# Altium footprint library CHXXX.pcblib: 136 footprints (part 5 of 9)
Each footprint in its own frame and in the unit in brackets; x right, y up, seen from the top. Pads: shape width x height; smd on the part's side, far side on the other; paste and mask are expansions set on the pad; w line width, h text height; cw(c..) or ccw(c..) is an arc to the next point about the centre after c.
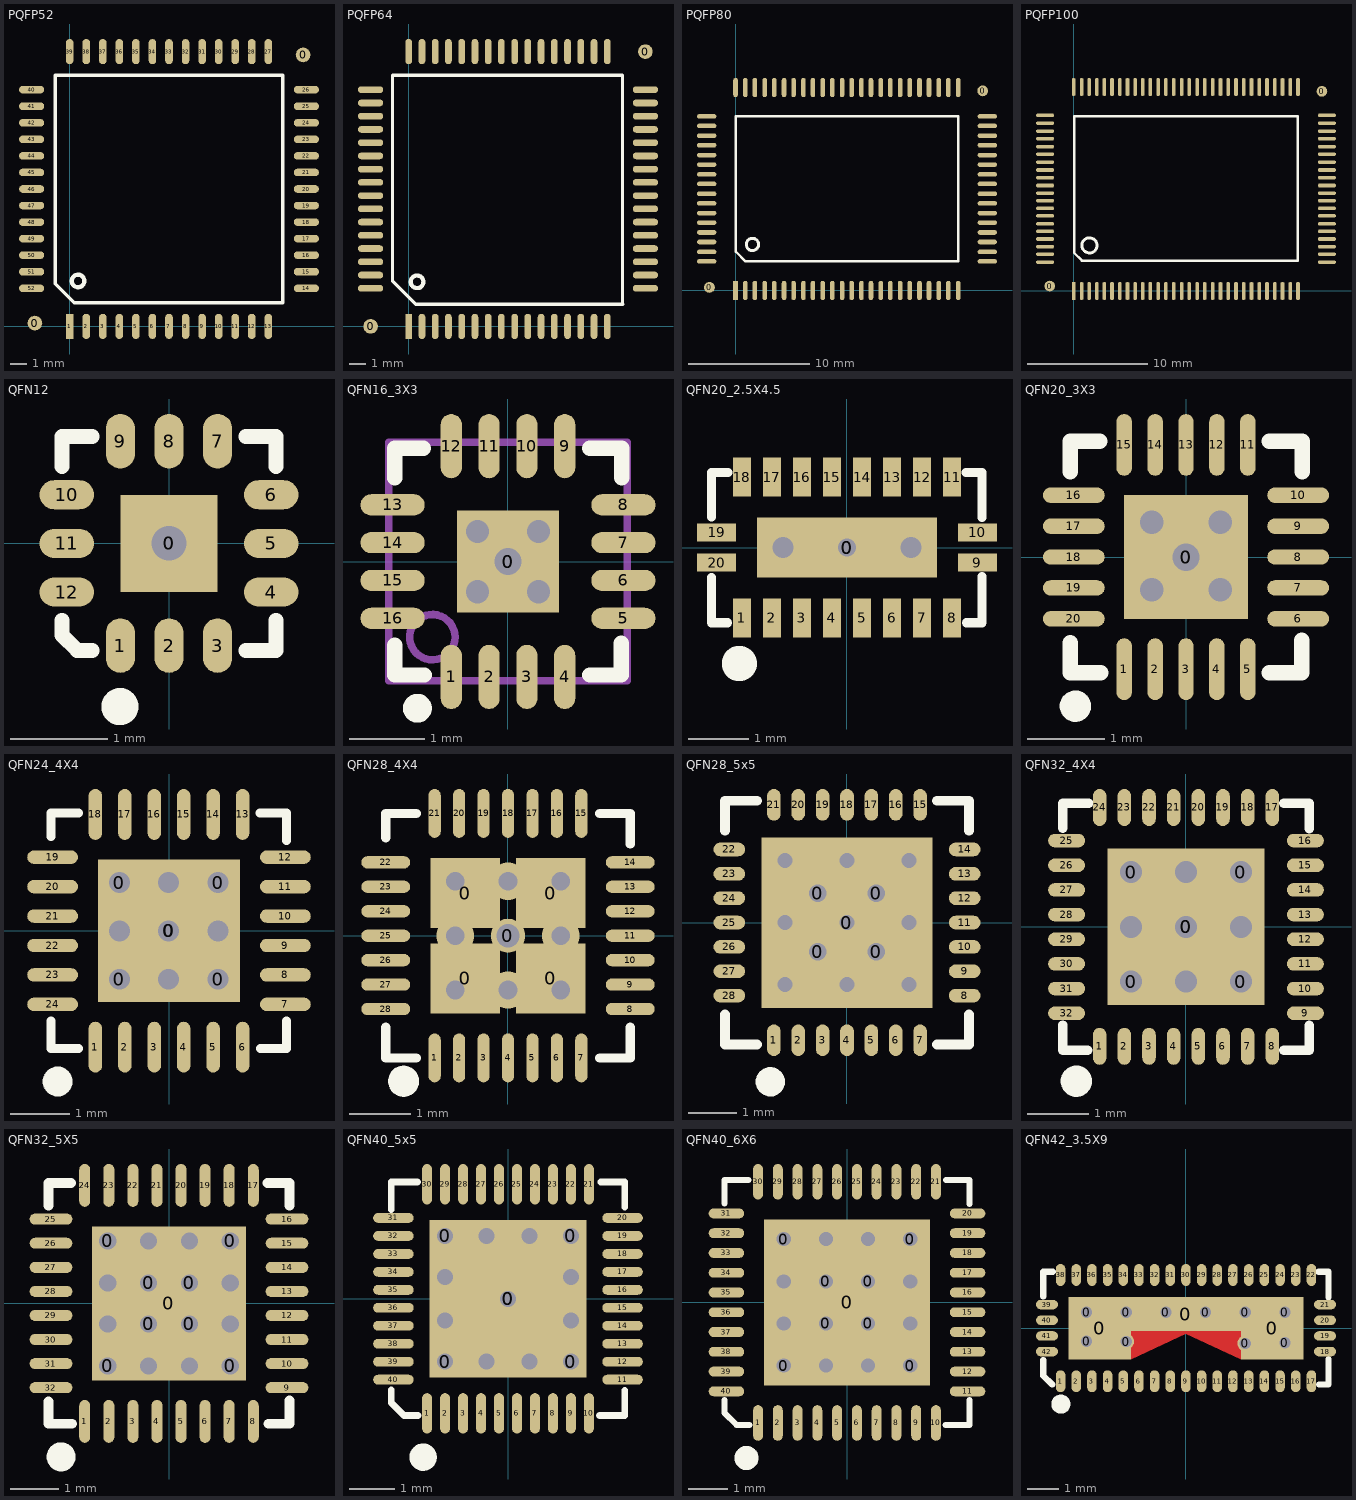
[diagram p4: the footprints below, top view; thin cyan lines are the x and y axes]

## PQFP52 [mil]
pads (54):
  round 35 smd: 0(-82.68,7.87) 0(555.12,645.67)
  rect 18x60 smd: 1(0,0)
  oval 18x60 smd: 2(39.37,0) 3(78.74,0) 4(118.11,0) 5(157.48,0) 6(196.85,0) 7(236.22,0) 8(275.59,0) 9(314.96,0) 10(354.33,0) 11(393.7,0) 12(433.07,0) 13(472.44,0) 27(472.44,653.54) 28(433.07,653.54) 29(393.7,653.54) 30(354.33,653.54) 31(314.96,653.54) 32(275.59,653.54) 33(236.22,653.54) 34(196.85,653.54) 35(157.48,653.54) 36(118.11,653.54) 37(78.74,653.54) 38(39.37,653.54) 39(0,653.54)
  oval 60x18 smd: 14(562.99,90.55) 15(562.99,129.92) 16(562.99,169.29) 17(562.99,208.66) 18(562.99,248.03) 19(562.99,287.4) 20(562.99,326.77) 21(562.99,366.14) 22(562.99,405.51) 23(562.99,444.88) 24(562.99,484.25) 25(562.99,523.62) 26(562.99,562.99) 40(-90.55,562.99) 41(-90.55,523.62) 42(-90.55,484.25) 43(-90.55,444.88) 44(-90.55,405.51) 45(-90.55,366.14) 46(-90.55,326.77) 47(-90.55,287.4) 48(-90.55,248.03) 49(-90.55,208.66) 50(-90.55,169.29) 51(-90.55,129.92) 52(-90.55,90.55)
TopOverlay:
  circle w10: c20,108 r15
  lines w7.87: -34.06,101.18 10.63,56.5 506.5,56.5 506.5,597.05 -34.06,597.05 -34.06,101.18

## PQFP64 [mil]
pads (66):
  round 35 smd: 0(-90.55,0) 0(562.99,653.54)
  rect 16x60 smd: 1(0,0)
  oval 16x60 smd: 2(31.5,0) 3(62.99,0) 4(94.49,0) 5(125.98,0) 6(157.48,0) 7(188.98,0) 8(220.47,0) 9(251.97,0) 10(283.46,0) 11(314.96,0) 12(346.46,0) 13(377.95,0) 14(409.45,0) 15(440.94,0) 16(472.44,0) 33(472.44,653.54) 34(440.94,653.54) 35(409.45,653.54) 36(377.95,653.54) 37(346.46,653.54) 38(314.96,653.54) 39(283.46,653.54) 40(251.97,653.54) 41(220.47,653.54) 42(188.98,653.54) 43(157.48,653.54) 44(125.98,653.54) 45(94.49,653.54) 46(62.99,653.54) 47(31.5,653.54) 48(0,653.54)
  oval 60x16 smd: 17(562.99,90.55) 18(562.99,122.05) 19(562.99,153.54) 20(562.99,185.04) 21(562.99,216.54) 22(562.99,248.03) 23(562.99,279.53) 24(562.99,311.02) 25(562.99,342.52) 26(562.99,374.02) 27(562.99,405.51) 28(562.99,437.01) 29(562.99,468.5) 30(562.99,500) 31(562.99,531.5) 32(562.99,562.99) 49(-90.55,562.99) 50(-90.55,531.5) 51(-90.55,500) 52(-90.55,468.5) 53(-90.55,437.01) 54(-90.55,405.51) 55(-90.55,374.02) 56(-90.55,342.52) 57(-90.55,311.02) 58(-90.55,279.53) 59(-90.55,248.03) 60(-90.55,216.54) 61(-90.55,185.04) 62(-90.55,153.54) 63(-90.55,122.05) 64(-90.55,90.55)
TopOverlay:
  circle w10: c20,106 r15
  lines w7.87: -38.34,107.06 -38.34,597.65 508.78,597.65 508.78,52.53
  lines w8: -38.34,107.06 -38.05,107.06 16.47,52.53 508.78,52.53

## PQFP80 [mil]
pads (82):
  round 35 smd: 0(-85,10) 0(805,650)
  rect 15x63 smd: 1(0,0)
  oval 15x63 smd: 2(32,0) 3(63,0) 4(95,0) 5(126,0) 6(158,0) 7(189,0) 8(221,0) 9(252,0) 10(284,0) 11(315,0) 12(347,0) 13(378,0) 14(410,0) 15(441,0) 16(473,0) 17(504,0) 18(536,0) 19(567,0) 20(599,0) 21(630,0) 22(662,0) 23(693,0) 24(725,0) 41(725,661) 42(693,661) 43(662,661) 44(630,661) 45(599,661) 46(567,661) 47(536,661) 48(504,661) 49(473,661) 50(441,661) 51(410,661) 52(378,661) 53(347,661) 54(315,661) 55(284,661) 56(252,661) 57(221,661) 58(189,661) 59(158,661) 60(126,661) 61(95,661) 62(63,661) 63(32,661) 64(0,661)
  oval 63x15 smd: 25(820,95) 26(820,126) 27(820,158) 28(820,189) 29(820,221) 30(820,252) 31(820,284) 32(820,315) 33(820,347) 34(820,378) 35(820,410) 36(820,441) 37(820,473) 38(820,504) 39(820,536) 40(820,567) 65(-94,567) 66(-94,536) 67(-94,504) 68(-94,473) 69(-94,441) 70(-94,410) 71(-94,378) 72(-94,347) 73(-94,315) 74(-94,284) 75(-94,252) 76(-94,221) 77(-94,189) 78(-94,158) 79(-94,126) 80(-94,95)
TopOverlay:
  circle w10: c55,150 r20
  lines w8: 0,126 0,567 725,567 725,95 32,95 1,126

## PQFP100 [mil]
pads (102):
  round 35 smd: 0(-78.74,16.26) 0(816.74,656.74)
  rect 12x60 smd: 1(0,0)
  oct 12x60 smd: 2(26,0) 3(51,0) 4(76,0) 5(101,0) 6(126,0) 7(152,0) 8(177,0) 9(202,0) 10(227,0) 11(252,0) 12(278,0) 13(303,0) 14(329,0) 15(355,0) 16(380,0) 17(406,0) 18(431,0) 19(457,0) 20(483,0) 21(508,0) 22(534,0) 23(559,0) 24(585,0) 25(611,0) 26(636,0) 27(662,0) 28(687,0) 29(713,0) 30(738,0) 51(738,671) 52(713,671) 53(687,671) 54(662,671) 55(636,671) 56(611,671) 57(585,671) 58(559,671) 59(534,671) 60(508,671) 61(483,671) 62(457,671) 63(431,671) 64(406,671) 65(380,671) 66(355,671) 67(329,671) 68(303,671) 69(278,671) 70(252,671) 71(227,671) 72(202,671) 73(177,671) 74(152,671) 75(126,671) 76(101,671) 77(76,671) 78(51,671) 79(26,671) 80(0,671)
  oct 60x12 smd: 31(833,95) 32(833,121) 33(833,146) 34(833,171) 35(833,196) 36(833,221) 37(833,247) 38(833,272) 39(833,297) 40(833,322) 41(833,347) 42(833,373) 43(833,398) 44(833,424) 45(833,450) 46(833,475) 47(833,501) 48(833,526) 49(833,552) 50(833,578) 81(-94,578) 82(-94,552) 83(-94,526) 84(-94,501) 85(-94,475) 86(-94,450) 87(-94,424) 88(-94,398) 89(-94,373) 90(-94,347) 91(-94,322) 92(-94,297) 93(-94,272) 94(-94,247) 95(-94,221) 96(-94,196) 97(-94,171) 98(-94,146) 99(-94,121) 100(-94,95)
TopOverlay:
  circle w10: c52,150 r25
  lines w8: 2,125 2,575 737,575 737,100 27,100 2,125

## QFN12 [mm]
pads (14):
  rect 1x1 smd mask+0.102: 0(0,0)
  round 0.559 hole 0.356 mask+0.102: 0(0,0)
  oval 0.3x0.56 smd mask+0.102: 1(-0.5,-1.05) 2(0,-1.05) 3(0.5,-1.05) 7(0.5,1.05) 8(0,1.05) 9(-0.5,1.05)
  oval 0.56x0.3 smd mask+0.102: 4(1.05,-0.5) 5(1.05,0) 6(1.05,0.5) 10(-1.05,0.5) 11(-1.05,0) 12(-1.05,-0.5)
TopOverlay:
  circle w0.229: c-0.504,-1.677 r0.076
  lines w0.152: -1.1,-0.789 -1.1,-0.945 -0.945,-1.1 -0.789,-1.1 ; -1.1,0.789 -1.1,1.1 -0.789,1.1 ; 0.789,-1.1 1.1,-1.1 1.1,-0.789 ; 0.789,1.1 1.1,1.1 1.1,0.789

## QFN16_3X3 [mm]
pads (18):
  rect 1.35x1.35 smd mask+0.051: 0(0,0)
  round 0.508 hole 0.356: 0(0,0)
  oval 0.28x0.85 smd mask+0.051: 1(-0.75,-1.526) 2(-0.25,-1.526) 3(0.25,-1.526) 4(0.75,-1.526) 9(0.75,1.526) 10(0.25,1.526) 11(-0.25,1.526) 12(-0.75,1.526)
  oval 0.85x0.28 smd mask+0.051: 5(1.526,-0.75) 6(1.526,-0.25) 7(1.526,0.25) 8(1.526,0.75) 13(-1.526,0.75) 14(-1.526,0.25) 15(-1.526,-0.25) 16(-1.526,-0.75)
via -0.405,-0.399 diameter 0.508 hole 0.305
via 0.405,-0.399 diameter 0.508 hole 0.305
via 0.405,0.399 diameter 0.508 hole 0.305
via -0.405,0.399 diameter 0.508 hole 0.305
TopOverlay:
  circle w0.229: c-1.198,-1.94 r0.076
  lines w0.203: -1.497,-1.108 -1.497,-1.5 -1.105,-1.5 ; -1.497,1.105 -1.497,1.5 -1.118,1.5 ; 1.079,-1.5 1.5,-1.5 1.5,-1.08 ; 1.082,1.5 1.503,1.5 1.503,1.108
Mechanical13:
  circle w0.1: c-1,-1 r0.3
  lines w0.1: -1.575,-1.575 -1.575,1.575 1.575,1.575 1.575,-1.575 -1.575,-1.575
3D body: height 0.25, standoff 0, extent -1.521,-1.519 1.521,1.523

## QFN20_2.5X4.5 [mm]
pads (22):
  rect 3x1 smd: 0(0,0)
  round 0.559 hole 0.305 mask+0.102: 0(0,0)
  rect 0.3x0.65 smd: 1(-1.75,-1.17) 2(-1.25,-1.17) 3(-0.75,-1.17) 4(-0.25,-1.17) 5(0.25,-1.17) 6(0.75,-1.17) 7(1.25,-1.17) 8(1.75,-1.17) 11(1.75,1.17) 12(1.25,1.17) 13(0.75,1.17) 14(0.25,1.17) 15(-0.25,1.17) 16(-0.75,1.17) 17(-1.25,1.17) 18(-1.75,1.17)
  rect 0.65x0.3 smd: 9(2.17,-0.25) 10(2.17,0.25) 19(-2.17,0.25) 20(-2.17,-0.25)
via 1.064,0 diameter 0.508 hole 0.356
via -1.064,0 diameter 0.508 hole 0.356
TopOverlay:
  circle w0.35: c-1.79,-1.93 r0.118
  lines w0.152: -2.257,-0.5 -2.257,-1.251 -1.99,-1.251 ; -2.257,0.51 -2.257,1.249 -1.98,1.249 ; 1.98,1.249 2.243,1.249 2.243,0.5 ; 1.99,-1.251 2.243,-1.251 2.243,-0.48

## QFN20_3X3 [mm]
pads (22):
  rect 1.6x1.6 smd: 0(0,0)
  round 0.508 hole 0.356: 0(0,0)
  oval 0.2x0.8 smd: 1(-0.8,-1.451) 2(-0.4,-1.451) 3(0,-1.451) 4(0.4,-1.451) 5(0.8,-1.451) 11(0.8,1.451) 12(0.4,1.451) 13(0,1.451) 14(-0.4,1.451) 15(-0.8,1.451)
  oval 0.8x0.2 smd: 6(1.451,-0.8) 7(1.451,-0.4) 8(1.451,0) 9(1.451,0.4) 10(1.451,0.8) 16(-1.451,0.8) 17(-1.451,0.4) 18(-1.451,0) 19(-1.451,-0.4) 20(-1.451,-0.8)
via 0.442,-0.422 diameter 0.508 hole 0.305
via -0.442,0.449 diameter 0.508 hole 0.305
via -0.442,-0.422 diameter 0.508 hole 0.305
via 0.442,0.449 diameter 0.508 hole 0.305
TopOverlay:
  circle w0.203: c-1.431,-1.93 r0.102
  lines w0.203: -1.497,-1.108 -1.497,-1.5 -1.105,-1.5 ; -1.497,1.105 -1.497,1.5 -1.118,1.5 ; 1.079,-1.5 1.5,-1.5 1.5,-1.08 ; 1.082,1.5 1.503,1.5 1.503,1.108

## QFN24_4X4 [mil]
pads (30):
  round 20 hole 14: 0(-33.21,-32.4) 0(-33.21,32.2) 0(-0.21,-0.1) 0(32.79,-32.4) 0(32.79,32.2)
  rect 95x95 smd: 0(0,0)
  oval 9x34 smd: 1(-49.21,-77.8) 2(-29.53,-77.8) 3(-9.84,-77.8) 4(9.84,-77.8) 5(29.53,-77.8) 6(49.21,-77.8) 13(49.21,77.8) 14(29.53,77.8) 15(9.84,77.8) 16(-9.84,77.8) 17(-29.53,77.8) 18(-49.21,77.8)
  oval 34x9 smd: 7(77.8,-49.21) 8(77.8,-29.53) 9(77.8,-9.84) 10(77.8,9.84) 11(77.8,29.53) 12(77.8,49.21) 19(-77.8,49.21) 20(-77.8,29.53) 21(-77.8,9.84) 22(-77.8,-9.84) 23(-77.8,-29.53) 24(-77.8,-49.21)
via -0.21,32.2 diameter 20 hole 14
via -33.21,-0.1 diameter 20 hole 14
via -0.21,-32.4 diameter 20 hole 14
via 32.79,-0.1 diameter 20 hole 14
TopOverlay:
  circle w10: c-74.48,-100.79 r5
  lines w6: -78.98,-60.44 -78.98,-78.76 -60.53,-78.76 ; -78.98,62.97 -78.98,78.72 -60.48,78.72 ; 60.67,78.72 78.5,78.72 78.5,60.39 ; 61.05,-78.76 78.5,-78.76 78.5,-60.43

## QFN28_4X4 [mm]
pads (33):
  rect 1.143x1.143 smd mask+0: 0(-0.699,-0.699) 0(-0.699,0.698) 0(0.699,-0.699) 0(0.699,0.698)
  round 0.559 hole 0.381 mask+0.102: 0(0,0)
  oval 0.2x0.8 smd: 1(-1.2,-2) 2(-0.8,-2) 3(-0.4,-2) 4(0,-2) 5(0.4,-2) 6(0.8,-2) 7(1.2,-2) 15(1.2,2) 16(0.8,2) 17(0.4,2) 18(0,2) 19(-0.4,2) 20(-0.8,2) 21(-1.2,2)
  oval 0.8x0.2 smd: 8(2,-1.2) 9(2,-0.8) 10(2,-0.4) 11(2,0) 12(2,0.4) 13(2,0.8) 14(2,1.2) 22(-2,1.2) 23(-2,0.8) 24(-2,0.4) 25(-2,0) 26(-2,-0.4) 27(-2,-0.8) 28(-2,-1.2)
via 0,0.889 diameter 0.61 hole 0.305
via 0,-0.889 diameter 0.61 hole 0.305
via 0.864,0 diameter 0.61 hole 0.305
via -0.864,0 diameter 0.61 hole 0.305
via -0.864,0.889 diameter 0.61 hole 0.305
via 0.864,0.889 diameter 0.61 hole 0.305
via 0.864,-0.889 diameter 0.61 hole 0.305
via -0.864,-0.889 diameter 0.61 hole 0.305
TopOverlay:
  circle w0.254: c-1.708,-2.381 r0.127
  lines w0.152: -2,-1.5 -2,-2 -1.5,-2 ; -2,1.6 -2,2 -1.5,2 ; 1.5,-2 2,-2 2,-1.5 ; 1.5,2 2,2 2,1.5

## QFN28_5x5 [mm]
pads (33):
  round 0.508 hole 0.356: 0(-0.6,-0.6) 0(-0.6,0.6) 0(0.6,-0.6) 0(0.6,0.6)
  rect 3.5x3.5 smd: 0(0,0)
  oval 0.28x0.65 smd: 1(-1.5,-2.416) 2(-1,-2.416) 3(-0.5,-2.416) 4(0,-2.416) 5(0.5,-2.416) 6(1,-2.416) 7(1.5,-2.416) 15(1.5,2.416) 16(1,2.416) 17(0.5,2.416) 18(0,2.416) 19(-0.5,2.416) 20(-1,2.416) 21(-1.5,2.416)
  oval 0.65x0.28 smd: 8(2.416,-1.5) 9(2.416,-1) 10(2.416,-0.5) 11(2.416,0) 12(2.416,0.5) 13(2.416,1) 14(2.416,1.5) 22(-2.416,1.5) 23(-2.416,1) 24(-2.416,0.5) 25(-2.416,0) 26(-2.416,-0.5) 27(-2.416,-1) 28(-2.416,-1.5)
via 0,1.27 diameter 0.61 hole 0.305
via 1.27,1.27 diameter 0.61 hole 0.305
via 1.27,0 diameter 0.61 hole 0.305
via 1.27,-1.27 diameter 0.61 hole 0.305
via 0,-1.27 diameter 0.61 hole 0.305
via -1.27,-1.27 diameter 0.61 hole 0.305
via -1.27,0 diameter 0.61 hole 0.305
via -1.27,1.27 diameter 0.61 hole 0.305
via 0,0 diameter 0.61 hole 0.305
TopOverlay:
  circle w0.305: c-1.573,-3.268 r0.148
  lines w0.203: -2.5,-1.885 -2.5,-2.5 -1.85,-2.5 ; -2.5,1.885 -2.5,2.5 -1.85,2.5 ; 1.85,-2.5 2.5,-2.5 2.5,-1.885 ; 1.85,2.5 2.5,2.5 2.5,1.885

## QFN32_4X4 [mm]
pads (38):
  round 0.508 hole 0.356: 0(-0.889,-0.887) 0(-0.889,0.887) 0(0,0) 0(0.889,-0.887) 0(0.889,0.887)
  rect 2.54x2.54 smd: 0(0,0)
  oval 0.22x0.6 smd: 1(-1.4,-1.936) 2(-1,-1.936) 3(-0.6,-1.936) 4(-0.2,-1.936) 5(0.2,-1.936) 6(0.6,-1.936) 7(1,-1.936) 8(1.4,-1.936) 17(1.4,1.936) 18(1,1.936) 19(0.6,1.936) 20(0.2,1.936) 21(-0.2,1.936) 22(-0.6,1.936) 23(-1,1.936) 24(-1.4,1.936)
  oval 0.6x0.22 smd: 9(1.936,-1.4) 10(1.936,-1) 11(1.936,-0.6) 12(1.936,-0.2) 13(1.936,0.2) 14(1.936,0.6) 15(1.936,1) 16(1.936,1.4) 25(-1.936,1.4) 26(-1.936,1) 27(-1.936,0.6) 28(-1.936,0.2) 29(-1.936,-0.2) 30(-1.936,-0.6) 31(-1.936,-1) 32(-1.936,-1.4)
via 0.889,0 diameter 0.508 hole 0.356
via 0,-0.887 diameter 0.508 hole 0.356
via -0.889,0 diameter 0.508 hole 0.356
via 0,0.887 diameter 0.508 hole 0.356
TopOverlay:
  circle w0.254: c-1.78,-2.502 r0.127
  lines w0.152: -2.001,-1.591 -2.001,-1.998 -1.595,-1.998 ; -2.001,1.602 -2.001,2.002 -1.574,2.002 ; 1.583,2.002 1.999,2.002 1.999,1.59 ; 1.585,-1.998 1.999,-1.998 1.999,-1.593

## QFN32_5X5 [mil]
pads (41):
  round 20 hole 14: 0(-50.12,-51.11) 0(-50.12,51.11) 0(-16.71,-16.7) 0(-16.71,16.7) 0(16.71,-16.7) 0(16.71,16.7) 0(50.12,-51.11) 0(50.12,51.11)
  rect 125.98x125.98 smd: 0(0,0)
  oval 9x35 smd: 1(-68.9,-96.49) 2(-49.21,-96.49) 3(-29.53,-96.49) 4(-9.84,-96.49) 5(9.84,-96.49) 6(29.53,-96.49) 7(49.21,-96.49) 8(68.9,-96.49) 17(68.9,96.49) 18(49.21,96.49) 19(29.53,96.49) 20(9.84,96.49) 21(-9.84,96.49) 22(-29.53,96.49) 23(-49.21,96.49) 24(-68.9,96.49)
  oval 35x9 smd: 9(96.49,-68.9) 10(96.49,-49.21) 11(96.49,-29.53) 12(96.49,-9.84) 13(96.49,9.84) 14(96.49,29.53) 15(96.49,49.21) 16(96.49,68.9) 25(-96.49,68.9) 26(-96.49,49.21) 27(-96.49,29.53) 28(-96.49,9.84) 29(-96.49,-9.84) 30(-96.49,-29.53) 31(-96.49,-49.21) 32(-96.49,-68.9)
via -16.71,51.11 diameter 20 hole 14
via 16.71,51.11 diameter 20 hole 14
via 50.12,16.7 diameter 20 hole 14
via 50.12,-16.7 diameter 20 hole 14
via 16.71,-51.11 diameter 20 hole 14
via -16.71,-51.11 diameter 20 hole 14
via -50.12,-16.7 diameter 20 hole 14
via -50.12,16.7 diameter 20 hole 14
TopOverlay:
  circle w12: c-88.22,-125.47 r5.84
  lines w8: -98.43,-80.19 -98.43,-98.43 -79.38,-98.43 ; -98.43,79.88 -98.43,98.43 -80.12,98.43 ; 80.43,98.43 98.42,98.43 98.42,79.79 ; 81.23,-98.43 98.42,-98.43 98.42,-79.42

## QFN40_5x5 [mm]
pads (46):
  round 0.559 hole 0.356 mask+0.102: 0(-1.4,-1.4) 0(-1.4,1.4) 0(0,0) 0(1.4,-1.4) 0(1.4,1.4)
  rect 3.5x3.5 smd mask+0.102: 0(0,0)
  oval 0.22x0.9 smd mask+0.102: 1(-1.8,-2.55) 2(-1.4,-2.55) 3(-1,-2.55) 4(-0.6,-2.55) 5(-0.2,-2.55) 6(0.2,-2.55) 7(0.6,-2.55) 8(1,-2.55) 9(1.4,-2.55) 10(1.8,-2.55) 21(1.8,2.55) 22(1.4,2.55) 23(1,2.55) 24(0.6,2.55) 25(0.2,2.55) 26(-0.2,2.55) 27(-0.6,2.55) 28(-1,2.55) 29(-1.4,2.55) 30(-1.8,2.55)
  oval 0.9x0.22 smd mask+0.102: 11(2.55,-1.8) 12(2.55,-1.4) 13(2.55,-1) 14(2.55,-0.6) 15(2.55,-0.2) 16(2.55,0.2) 17(2.55,0.6) 18(2.55,1) 19(2.55,1.4) 20(2.55,1.8) 31(-2.55,1.8) 32(-2.55,1.4) 33(-2.55,1) 34(-2.55,0.6) 35(-2.55,0.2) 36(-2.55,-0.2) 37(-2.55,-0.6) 38(-2.55,-1) 39(-2.55,-1.4) 40(-2.55,-1.8)
via -0.483,1.4 diameter 0.61 hole 0.356
via 0.483,1.4 diameter 0.61 hole 0.356
via 1.4,0.483 diameter 0.61 hole 0.356
via 1.4,-0.483 diameter 0.61 hole 0.356
via 0.483,-1.4 diameter 0.61 hole 0.356
via -0.483,-1.4 diameter 0.61 hole 0.356
via -1.4,0.483 diameter 0.61 hole 0.356
via -1.4,-0.483 diameter 0.61 hole 0.356
TopOverlay:
  circle w0.305: c-1.89,-3.524 r0.152
  lines w0.152: -2.6,-2.025 -2.6,-2.311 -2.316,-2.6 -2.004,-2.6 ; -2.6,1.988 -2.6,2.6 -2.011,2.6 ; 2.038,-2.6 2.6,-2.6 2.6,-2.043 ; 2.065,2.6 2.6,2.6 2.6,2.039

## QFN40_6X6 [mm]
pads (49):
  round 0.508 hole 0.356 mask+0.102: 0(-1.6,-1.6) 0(-1.6,1.6) 0(-0.533,-0.533) 0(-0.533,0.533) 0(0.533,-0.533) 0(0.533,0.533) 0(1.6,-1.6) 0(1.6,1.6)
  rect 4.2x4.2 smd mask+0.102: 0(0,0)
  oval 0.25x0.9 smd mask+0.102: 1(-2.25,-3.05) 2(-1.75,-3.05) 3(-1.25,-3.05) 4(-0.75,-3.05) 5(-0.25,-3.05) 6(0.25,-3.05) 7(0.75,-3.05) 8(1.25,-3.05) 9(1.75,-3.05) 10(2.25,-3.05) 21(2.25,3.05) 22(1.75,3.05) 23(1.25,3.05) 24(0.75,3.05) 25(0.25,3.05) 26(-0.25,3.05) 27(-0.75,3.05) 28(-1.25,3.05) 29(-1.75,3.05) 30(-2.25,3.05)
  oval 0.9x0.25 smd mask+0.102: 11(3.05,-2.25) 12(3.05,-1.75) 13(3.05,-1.25) 14(3.05,-0.75) 15(3.05,-0.25) 16(3.05,0.25) 17(3.05,0.75) 18(3.05,1.25) 19(3.05,1.75) 20(3.05,2.25) 31(-3.05,2.25) 32(-3.05,1.75) 33(-3.05,1.25) 34(-3.05,0.75) 35(-3.05,0.25) 36(-3.05,-0.25) 37(-3.05,-0.75) 38(-3.05,-1.25) 39(-3.05,-1.75) 40(-3.05,-2.25)
via -1.6,-0.533 diameter 0.508 hole 0.356
via -1.6,0.533 diameter 0.508 hole 0.356
via -0.533,-1.6 diameter 0.508 hole 0.356
via 0.533,-1.6 diameter 0.508 hole 0.356
via 1.6,-0.533 diameter 0.508 hole 0.356
via 1.6,0.533 diameter 0.508 hole 0.356
via 0.533,1.6 diameter 0.508 hole 0.356
via -0.533,1.6 diameter 0.508 hole 0.356
TopOverlay:
  circle w0.305: c-2.541,-3.936 r0.152
  lines w0.152: -3.1,-2.79 -3.1,-2.794 ; -3.1,-2.466 -3.1,-2.794 ; -3.1,2.501 -3.1,3.1 -2.493,3.1 ; -2.467,-3.1 -2.794,-3.1 -3.1,-2.794 ; 2.491,-3.1 3.1,-3.1 3.1,-2.476 ; 2.502,3.1 3.1,3.1 3.1,2.484

## QFN42_3.5X9 [mm]
pads (55):
  round 0.508 hole 0.356 mask+0: 0(-3.176,-0.419) 0(-3.176,0.504) 0(-1.909,-0.429) 0(-1.909,0.504) 0(-0.642,0.504) 0(0.625,0.504) 0(1.892,-0.49) 0(1.892,0.504) 0(3.159,-0.469) 0(3.159,0.504)
  rect 2x2 smd: 0(-2.75,0) 0(2.75,0)
  rect 7.5x1.1 smd: 0(-0.002,0.45)
  oval 0.3x0.7 smd: 1(-4.002,-1.697) 2(-3.502,-1.697) 3(-3.002,-1.697) 4(-2.502,-1.697) 5(-2.002,-1.697) 6(-1.502,-1.697) 7(-1.002,-1.697) 8(-0.502,-1.697) 9(-0.002,-1.697) 10(0.498,-1.697) 11(0.998,-1.697) 12(1.498,-1.697) 13(2.002,-1.697) 14(2.502,-1.697) 15(3.002,-1.697) 16(3.502,-1.697) 17(4.002,-1.697) 22(4.002,1.697) 23(3.502,1.697) 24(3.002,1.697) 25(2.502,1.697) 26(2.002,1.697) 27(1.498,1.697) 28(0.998,1.697) 29(0.498,1.697) 30(-0.002,1.697) 31(-0.502,1.697) 32(-1.002,1.697) 33(-1.502,1.697) 34(-2.002,1.697) 35(-2.502,1.697) 36(-3.002,1.697) 37(-3.502,1.697) 38(-4.002,1.697)
  oval 0.7x0.3 smd: 18(4.438,-0.75) 19(4.438,-0.25) 20(4.438,0.25) 21(4.438,0.75) 39(-4.438,0.75) 40(-4.438,0.25) 41(-4.438,-0.25) 42(-4.438,-0.75)
TopLayer:
  region: 1.745,-1 1.745,0 -1.75,0 -1.75,-1 -0.002,-0.174
TopOverlay:
  circle w0.305: c-3.994,-2.425 r0.152
  lines w0.203: -4.552,-1.02 -4.552,-1.521 -4.273,-1.8 ; -4.552,1.01 -4.552,1.8 -4.25,1.8 ; 4.23,1.8 4.548,1.8 4.548,0.99 ; 4.25,-1.8 4.548,-1.8 4.548,-1
TopPaste:
  region: -1.75,-1 -0.002,-0.174 1.745,-1 2.356,-1 2.356,0 -2.36,0 -2.36,-1
TopSolder:
  region: -1.648,-1.102 -0.002,-0.323 1.644,-1.102 2.356,-1.102 2.356,0 -2.36,0 -2.36,-1.102